# Altium schematic symbol library 0603YC104J4T4A.SchLib: 1 symbol
Pins are listed as number, name and electrical type; pins without a type are passive.

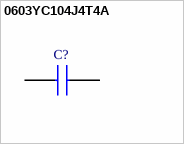
[diagram p0: symbol 0603YC104J4T4A]

## 0603YC104J4T4A
designator C?
Multilayer Ceramic Capacitors MLCC - SMD/SMT 16V .1uF X7R 0603 Tol 5% AEC-Q200; Manufacturer_Name: AVX; Geometry.Height: 0.9mm; Mouser Part Number: 581-0603YC104J4T4A; Mouser Price/Stock: https://www.mouser.co.uk/ProductDetail/AVX/0603YC104J4T4A?qs=Cej1j9ztgjFyuPBXcKRKGA%3D%3D; Manufacturer_Part_Number: 0603YC104J4T4A; Datasheet Link: https://componentsearchengine.com/Datasheets/1/06031A100FAT2A.pdf
footprint CAPC1608X90N
pins: 1, 2